# Altium schematic symbol library Jumper.SchLib: 1 symbol
Pins are listed as number, name and electrical type; pins without a type are passive.

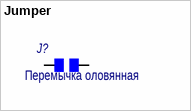
[diagram p0: symbol Jumper]

## Jumper
designator J?  Наименование: Перемычка оловянная  (hidden comment: Jumper)
Jumper, 2-Pin, smd; Потребление, Вт: 0,0; Назначение: Перемычка оловянная
footprint JMP
pins: 1, 2